# EAGLE library part PINHD-1X6 (library InfoAmazonia)
PIN HEADER
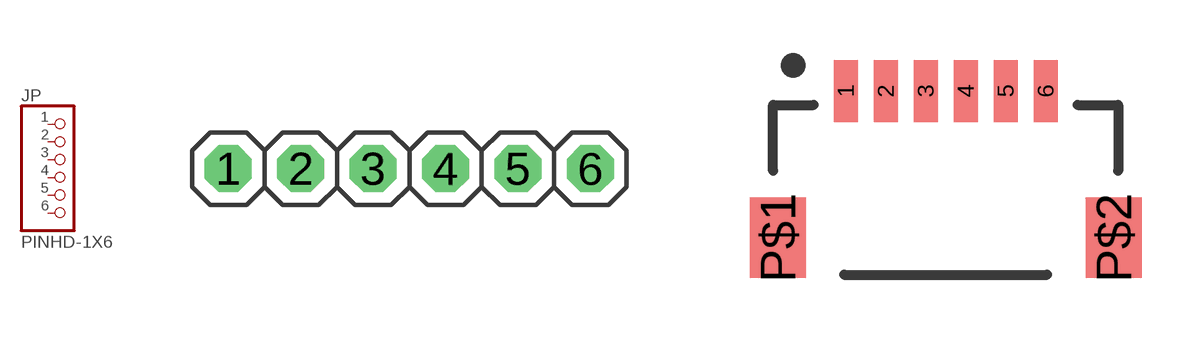
[diagram p4: symbol with the pads of 1X06; footprints 1X06, 1X06-1MM-RA]

Designator prefix JP

## PINHD-1X6  [1X06]
1  1  pas
2  2  pas
3  3  pas
4  4  pas
5  5  pas
6  6  pas

## PINHD-1X6-1MM-SMD  [1X06-1MM-RA]
Pads as for 1X06

## Footprint 1X06 (pad centres in mm)
PIN HEADER
drill 1.1 octagon: 1 -6.35,0; 2 -3.81,0; 3 -1.27,0; 4 1.27,0; 5 3.81,0; 6 6.35,0

## Footprint 1X06-1MM-RA (pad centres in mm)
smd 0.6 x 1.55: 1 -2.5,0; 2 -1.5,0; 3 -0.5,0; 4 0.5,0; 5 1.5,0; 6 2.5,0
smd 1.4 x 2: P$1 -4.2,-3.675; P$2 4.2,-3.675